# Altium footprint library CSD18502KCS.PcbLib: 1 footprints
Each footprint in its own frame and in the unit in brackets; x right, y up, seen from the top. Pads: shape width x height; smd on the part's side, far side on the other; paste and mask are expansions set on the pad; w line width, h text height; cw(c..) or ccw(c..) is an arc to the next point about the centre after c.
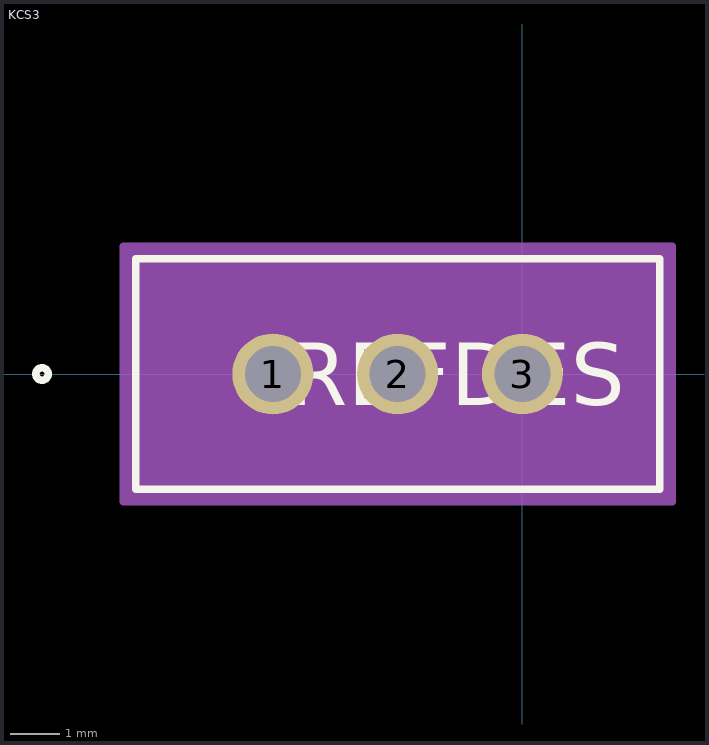
[diagram p0: the footprint, top view; thin cyan lines are the x and y axes]

## KCS3 [mil]
pads (3):
  round 65 / inner round 60 / far side round 65 hole 45 paste-99999 mask-32.5: 1(-200,0) 2(-100,0) 3(0,0)
Top Overlay:
  circle w6: c-385,0 r5
  lines w6: -310,-92.5 -310,92.5 110,92.5 110,-92.5 -310,-92.5
  text "REFDES" at -187.5,-25 h50
Mechanical 13:
  circle w0: c-385,0 r5
  lines w1: -310,-92.5 -310,92.5 110,92.5 110,-92.5 -310,-92.5
  text "RefDes2" at -187.5,-25 h50
Mechanical 15:
  region: 120,102.5 -320,102.5 -320,-102.5 120,-102.5
  lines w6: -320,-102.5 120,-102.5 120,102.5 -320,102.5 -320,-102.5
3D body "KCS3.step": height 650, standoff -255, extent -310,-90 110,95.04